# EAGLE library part LMR16006YDDCR (library AcceleratedDesigns_lib)
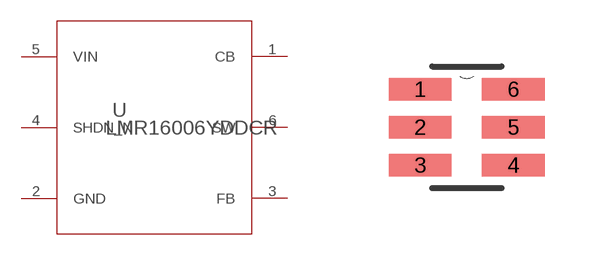
[diagram p0: symbol with the pads of DDC0006A; footprint DDC0006A]

Designator prefix U

## LMR16006YDDCR (COMPTYPE: IC; MANUFACTURER: Texas Instruments; MANUFACTURER_NAME: Texas Instruments; MANUFACTURER_PART_NUMBER: LMR16006YDDCR; MOUNTTYPE: SMT; PACKAGEREFERENCE: DDC0006A; PARTNUMBER: LMR16006YDDC; PIN_COUNT: 6; REFDES: RefDes; ROHS: Y; TYPE: TYPE; VALUE: Value)  [DDC0006A]
1  CB  out
2  GND  pwr
3  FB  in
4  SHDN_N  in
5  VIN  pwr
6  SW  pwr

## Footprint DDC0006A (pad centres in mm)
smd 1.575 x 0.559: 1 -1.168,0.95; 2 -1.168,0; 3 -1.168,-0.95; 4 1.168,-0.95; 5 1.168,0; 6 1.168,0.95